# Altium footprint library TO-263-7.PcbLib: 1 footprints
Each footprint in its own frame and in the unit in brackets; x right, y up, seen from the top. Pads: shape width x height; smd on the part's side, far side on the other; paste and mask are expansions set on the pad; w line width, h text height; cw(c..) or ccw(c..) is an arc to the next point about the centre after c.
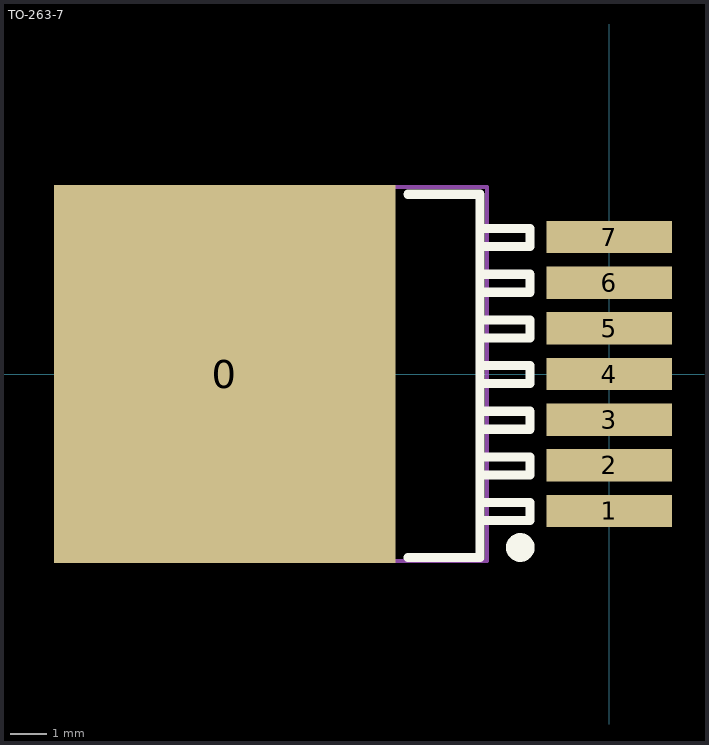
[diagram p0: the footprint, top view; thin cyan lines are the x and y axes]

## TO-263-7 [mm]
pads (8):
  rect 9.5x10.5 smd: 0(-10.7,0)
  rect 3.5x0.9 smd: 1(0,-3.81) 2(0,-2.54) 3(0,-1.27) 4(0,0) 5(0,1.27) 6(0,2.54) 7(0,3.81)
Top Overlay:
  circle w0.4: c-2.475,-4.825 r0.2
  lines w0.254: -5.6,-5.1 -3.6,-5.1 -3.6,5 -5.6,5 ; -3.6,-4.075 -2.2,-4.075 -2.2,-3.575 -3.6,-3.575 ; -3.6,-2.805 -2.2,-2.805 -2.2,-2.305 -3.6,-2.305 ; -3.6,-1.535 -2.2,-1.535 -2.2,-1.035 -3.6,-1.035 ; -3.6,-0.265 -2.2,-0.265 -2.2,0.235 -3.6,0.235 ; -3.6,1.005 -2.2,1.005 -2.2,1.505 -3.6,1.505 ; -3.6,2.275 -2.2,2.275 -2.2,2.775 -3.6,2.775 ; -3.6,3.545 -2.2,3.545 -2.2,4.045 -3.6,4.045
Mechanical 13:
  lines w0.1: -14.4,-5.2 -3.4,-5.2 -3.4,5.2 -14.4,5.2 -14.4,-5.2